# Altium integrated library INDUCTOR.IntLib: 18 symbols
Pins are listed as number, name and electrical type; pins without a type are passive.

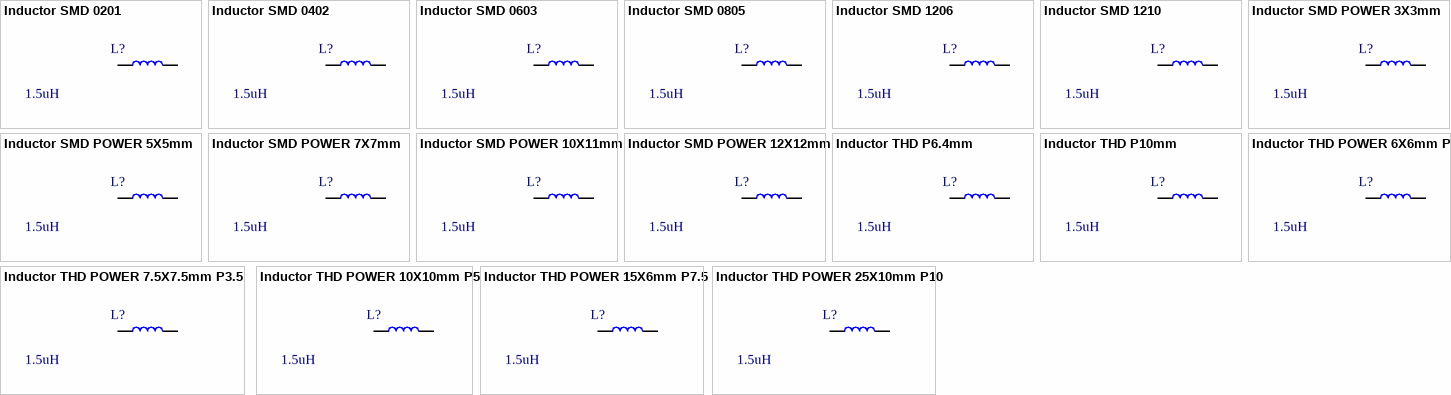
[diagram p0: symbols Inductor SMD 0201 to Inductor THD POWER 25X10mm P10]

## Inductor SMD 0201
designator L?  value 1.5uH
SMT Inductor
footprint IND 0201
pins: 1, 2

## Inductor SMD 0402
designator L?  value 1.5uH
SMT Inductor
footprint IND 0402
pins: 1, 2

## Inductor SMD 0603
designator L?  value 1.5uH
SMT Inductor
footprint IND 0603
pins: 1, 2

## Inductor SMD 0805
designator L?  value 1.5uH
SMT Inductor
footprint IND 0805
pins: 1, 2

## Inductor SMD 1206
designator L?  value 1.5uH
SMT Inductor
footprint IND 1206
pins: 1, 2

## Inductor SMD 1210
designator L?  value 1.5uH
SMT Inductor
footprint IND 1210
pins: 1, 2

## Inductor SMD POWER 3X3mm
designator L?  value 1.5uH
SMT Inductor
footprint IND 3X3
pins: 1, 2

## Inductor SMD POWER 5X5mm
designator L?  value 1.5uH
SMT Inductor
footprint IND 5X5
pins: 1, 2

## Inductor SMD POWER 7X7mm
designator L?  value 1.5uH
SMT Inductor
footprint IND 7X7
pins: 1, 2

## Inductor SMD POWER 10X11mm
designator L?  value 1.5uH
SMT Inductor
footprint IND 10X11
pins: 1, 2

## Inductor SMD POWER 12X12mm
designator L?  value 1.5uH
SMT Inductor
footprint IND 12X12
pins: 1, 2

## Inductor THD P6.4mm
designator L?  value 1.5uH
THD Inductor
footprint IND AXIAL P6.4 (INDUCTOR, Axial, 6.4mm,)
pins: 1, 2

## Inductor THD P10mm
designator L?  value 1.5uH
THD Inductor
footprint IND AXIAL P10 (INDUCTOR, Axial, 9.8mm,)
pins: 1, 2

## Inductor THD POWER 6X6mm P3
designator L?  value 1.5uH
THD Inductor
footprint IND CYL_6X6_P3 (INDUCTOR, Cylinder, 6mm,)
pins: 1, 2

## Inductor THD POWER 7.5X7.5mm P3.5
designator L?  value 1.5uH
THD Inductor
footprint IND CYL_7.5x7.5_P3.5 (INDUCTOR, Cylinder, 7.5mm,)
pins: 1, 2

## Inductor THD POWER 10X10mm P5
designator L?  value 1.5uH
THD Inductor
footprint IND CYL_10X10_P5 (INDUCTOR, Cylinder, 10mm,)
pins: 1, 2

## Inductor THD POWER 15X6mm P7.5
designator L?  value 1.5uH
THD Inductor
footprint IND TOR_15X6 P7.5 (INDUCTOR, TORIOD, 15.0X6.0mm)
pins: 1, 2

## Inductor THD POWER 25X10mm P10
designator L?  value 1.5uH
THD Inductor
footprint IND TOR_25X10 P10 (INDUCTOR, TORIOD, 25.0X10.0mm)
pins: 1, 2